# Altium integrated library Analog Devices Data Converters Analog-to-Digital Converters.IntLib: 2400 symbols (part 73 of 338)
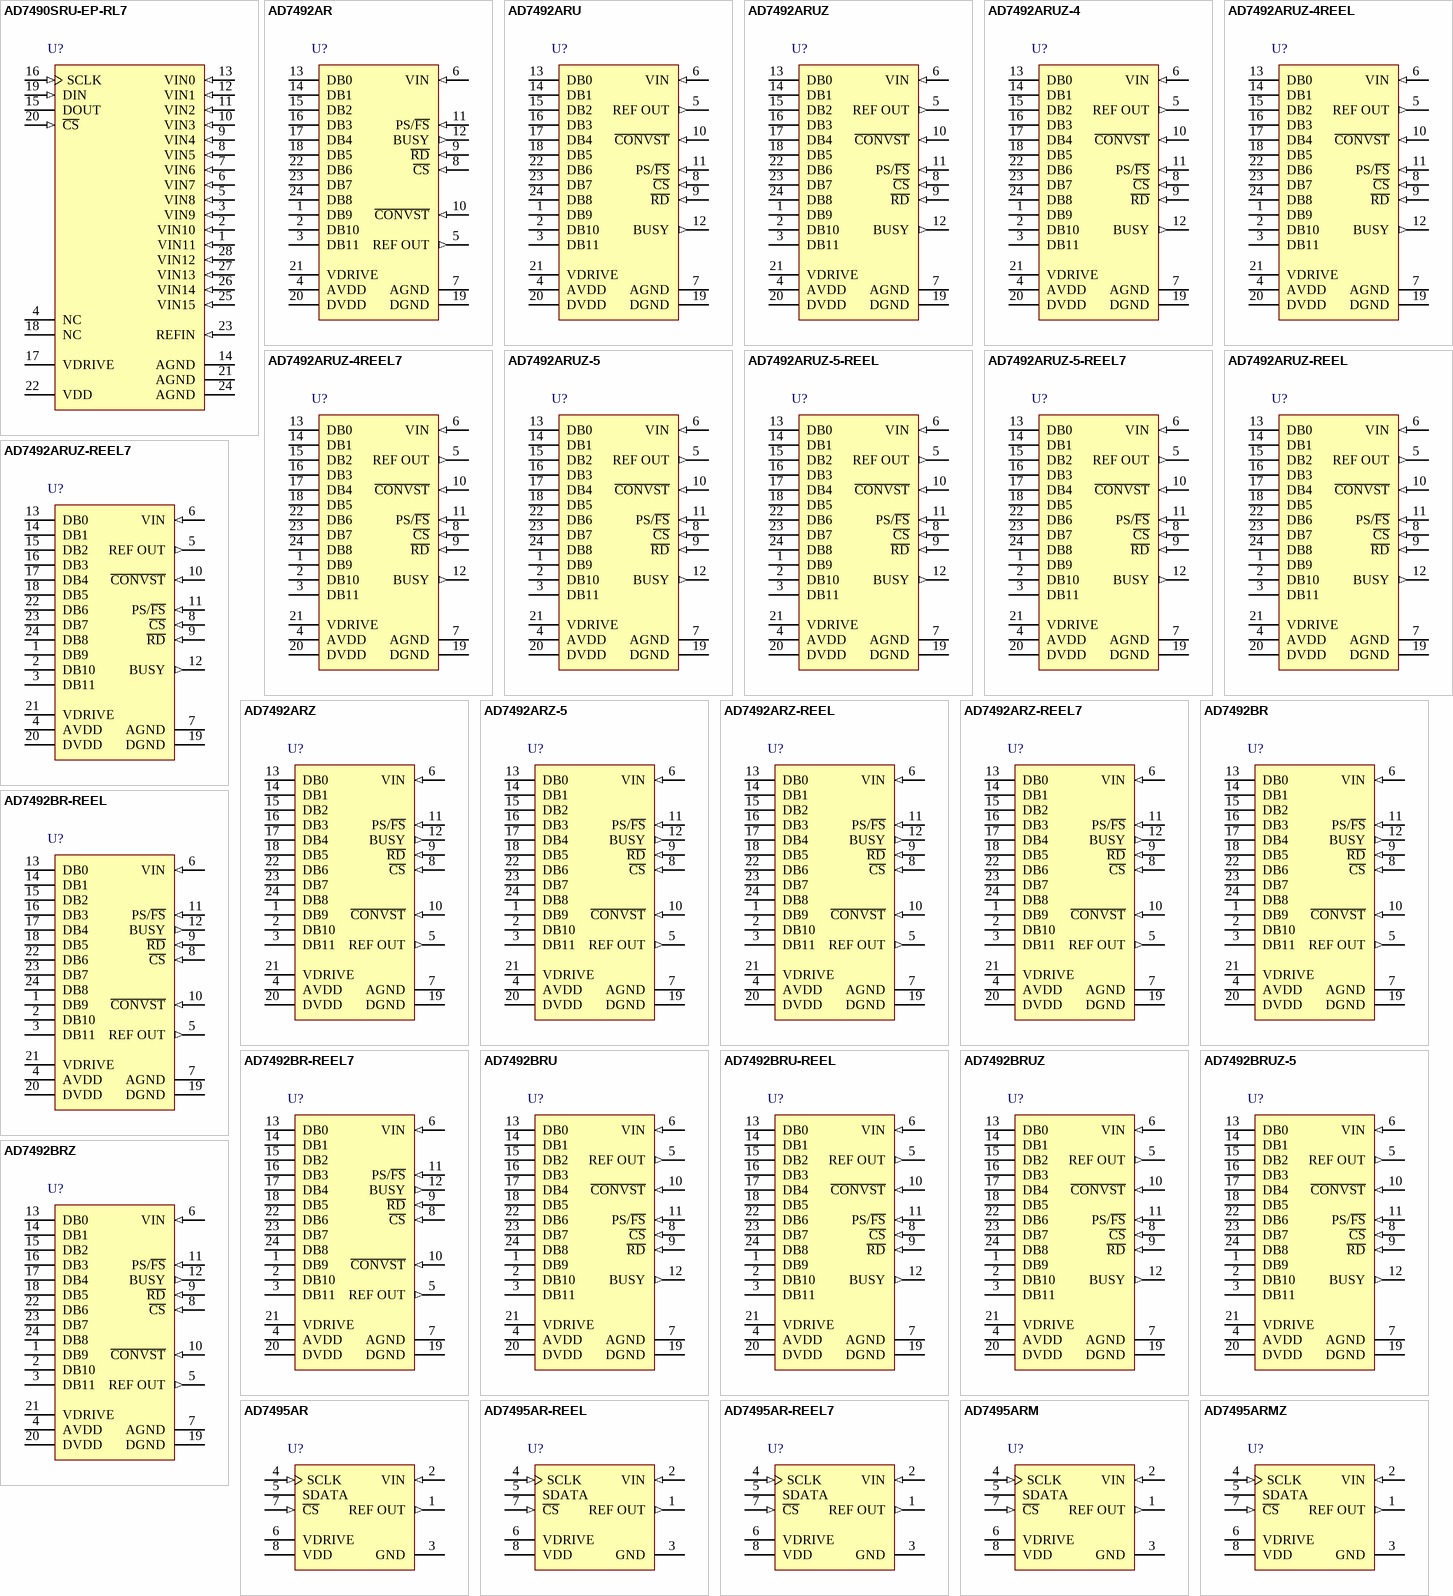
[diagram p296: symbols AD7490SRU-EP-RL7 to AD7495ARMZ]

## AD7490SRU-EP-RL7
designator U?
16 Channel 12-Bit Analog-to-Digital Converter with Serial, SPI Interface and Sequencer, 1MSPS, -55 to +125 degC, RU-28, Reel; Part Number: AD7490; Manufacturer: Analog Devices; Resolution (Bits): 12; Channels: 16; Throughput Rate (SPS): 1M; Interface: Ser, SPI; DatasheetVersion: Rev.0; PackageVersion: 2005; PackageReference: RU-28; PackageDescription: 28-Lead Thin Shrink Small Outline Package [TSSOP]; RoHS: N; Packing: Reel; Mounting Technology: Surface Mount; Code_JEDEC: MO-153-AE; ComponentLink1Description: Manufacturer URL; ComponentLink1URL: http://www.analog.com/en/index.html; ComponentLink2Description: Datasheet; ComponentLink2URL: http://www.analog.com/static/imported-files/data_sheets/AD7490-EP.pdf; ComponentLink3Description: Package Specification; ComponentLink3URL: http://www.analog.com/static/imported-files/packages/249854663RU_28.pdf; ComponentLink4Description: Product URL; ComponentLink4URL: http://www.analog.com/en/analog-to-digital-converters/ad-converters/ad7490/products/product.html
footprint RU-28_N (TSOP, 28-Leads, Body 9.7x4.4mm, Pitch 0.65mm, IPC Medium Density)
footprint RU-28_L (TSOP, 28-Leads, Body 9.7x4.4mm, Pitch 0.65mm, IPC High Density)
footprint RU-28_M (TSOP, 28-Leads, Body 9.7x4.4mm, Pitch 0.65mm, IPC Low Density)
pins: 1 VIN11 (in) "Analog Input 11. Sixteen single-ended analog input channels that are multiplexed into the on chip track-and-hold. The analog input channel to be converted is selected by using the address bits ADD3 through ADD0 of the (See Datasheet)", 2 VIN10 (in) "Analog Input 10. Sixteen single-ended analog input channels that are multiplexed into the on chip track-and-hold. The analog input channel to be converted is selected by using the address bits ADD3 through ADD0 of the (See Datasheet)", 3 VIN9 (in) "Analog Input 9. Sixteen single-ended analog input channels that are multiplexed into the on chip track-and-hold. The analog input channel to be converted is selected by using the address bits ADD3 through ADD0 of the control (See Datasheet)", 4 NC "No Connect.", 5 VIN8 (in) "Analog Input 8. Sixteen single-ended analog input channels that are multiplexed into the on chip track-and-hold. The analog input channel to be converted is selected by using the address bits ADD3 through ADD0 of the control (See Datasheet)", 6 VIN7 (in) "Analog Input 7. Sixteen single-ended analog input channels that are multiplexed into the on chip track-and-hold. The analog input channel to be converted is selected by using the address bits ADD3 through ADD0 of the control (See Datasheet)", 7 VIN6 (in) "Analog Input 6. Sixteen single-ended analog input channels that are multiplexed into the on chip track-and-hold. The analog input channel to be converted is selected by using the address bits ADD3 through ADD0 of the control (See Datasheet)", 8 VIN5 (in) "Analog Input 5. Sixteen single-ended analog input channels that are multiplexed into the on chip track-and-hold. The analog input channel to be converted is selected by using the address bits ADD3 through ADD0 of the control (See Datasheet)", 9 VIN4 (in) "Analog Input 4. Sixteen single-ended analog input channels that are multiplexed into the on chip track-and-hold. The analog input channel to be converted is selected by using the address bits ADD3 through ADD0 of the control (See Datasheet)", 10 VIN3 (in) "Analog Input 3. Sixteen single-ended analog input channels that are multiplexed into the on chip track-and-hold. The analog input channel to be converted is selected by using the address bits ADD3 through ADD0 of the control (See Datasheet)", 11 VIN2 (in) "Analog Input 2. Sixteen single-ended analog input channels that are multiplexed into the on chip track-and-hold. The analog input channel to be converted is selected by using the address bits ADD3 through ADD0 of the control (See Datasheet)", 12 VIN1 (in) "Analog Input 1. Sixteen single-ended analog input channels that are multiplexed into the on chip track-and-hold. The analog input channel to be converted is selected by using the address bits ADD3 through ADD0 of the control (See Datasheet)", 13 VIN0 (in) "Analog Input 0. Sixteen single-ended analog input channels that are multiplexed into the on chip track-and-hold. The analog input channel to be converted is selected by using the address bits ADD3 through ADD0 of the control (See Datasheet)", 14 AGND (power) "Analog Ground. Ground reference point for all circuitry on the AD7490. All analog/digital input signals and any external reference signal should be referred to this AGND voltage. All AGND pins should be connected together.", 15 DOUT (hiz) "Data Out. Logic output. The conversion result from the AD7490 is provided on this output as a serial data stream. The bits are clocked out on the falling edge of the SCLK input. The data stream consists of four address bits (See Datasheet)", 16 SCLK (in) "Serial Clock. Logic input. SCLK provides the serial clock for accessing data from the part. This clock input is also used as the clock source for the conversion process of the AD7490.", 17 VDRIVE (power) "Logic Power Supply Input. The voltage supplied at this pin determines at what voltage the serial interface of the AD7490 operates.", 18 NC "No Connect.", 19 DIN (in) "Data In. Logic input. Data to be written to the control register of the AD7490 is provided on this input and is clocked into the register on the falling edge of SCLK (see the Control Register section).", 20 ~{CS} (in) "Chip Select. Active low logic input. This input provides the dual function of initiating conversions on the AD7490 and also frames the serial data transfer.", 21 AGND (power) "Analog Ground. Ground reference point for all circuitry on the AD7490. All analog/digital input signals and any external reference signal should be referred to this AGND voltage. All AGND pins should be connected together.", 22 VDD (power) "Power Supply Input. The VDD range for the AD7490 is from 2.7 V to 5.25 V. For the 0 V to 2 x REFIN range, VDD should be from 4.75 V to 5.25 V", 23 REFIN (in) "Reference Input for the AD7490. An external reference must be applied to this input. The voltage range for the external reference is 2.5 V +/- 1% for specified performance.", 24 AGND (power) "Analog Ground. Ground reference point for all circuitry on the AD7490. All analog/digital input signals and any external reference signal should be referred to this AGND voltage. All AGND pins should be connected together.", 25 VIN15 (in) "Analog Input 15. Sixteen single-ended analog input channels that are multiplexed into the on chip track-and-hold. The analog input channel to be converted is selected by using the address bits ADD3 through ADD0 of the (See Datasheet)", 26 VIN14 (in) "Analog Input 14. Sixteen single-ended analog input channels that are multiplexed into the on chip track-and-hold. The analog input channel to be converted is selected by using the address bits ADD3 through ADD0 of the (See Datasheet)", 27 VIN13 (in) "Analog Input 13. Sixteen single-ended analog input channels that are multiplexed into the on chip track-and-hold. The analog input channel to be converted is selected by using the address bits ADD3 through ADD0 of the (See Datasheet)", 28 VIN12 (in) "Analog Input 12. Sixteen single-ended analog input channels that are multiplexed into the on chip track-and-hold. The analog input channel to be converted is selected by using the address bits ADD3 through ADD0 of the (See Datasheet)"